# EAGLE library part TL072CDR (library (common)-parts-that-we-use)
OPERATIONAL AMPLIFIERS
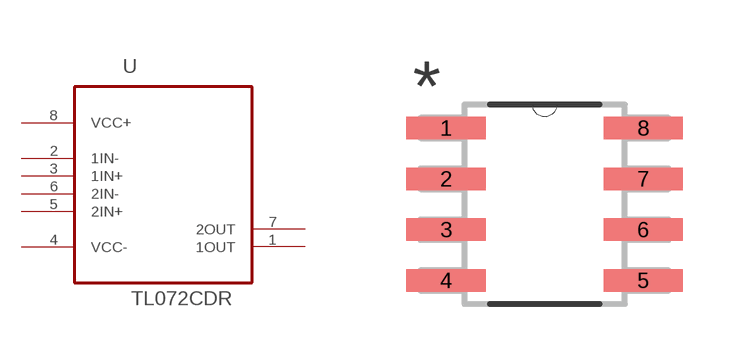
[diagram p6: symbol with the pads of SOIC127P600X175-8N; footprint SOIC127P600X175-8N]

Designator prefix U

## TL072CDR (MPN: TL072CDR; OC_FARNELL: 9865314; OC_NEWARK: 36K7650; PACKAGE: SOIC-8; SUPPLIER: Texas Instruments)  [SOIC127P600X175-8N]
1  1OUT  out
2  1IN-  in
3  1IN+  in
4  VCC-  pas
5  2IN+  in
6  2IN-  in
7  2OUT  out
8  VCC+  pwr

## Footprint SOIC127P600X175-8N (pad centres in mm)
smd 1.981 x 0.559: 1 -2.464,1.905; 2 -2.464,0.635; 3 -2.464,-0.635; 4 -2.464,-1.905; 5 2.464,-1.905; 6 2.464,-0.635; 7 2.464,0.635; 8 2.464,1.905